# EAGLE library part AD5593 (library UNKNOWN-2024)
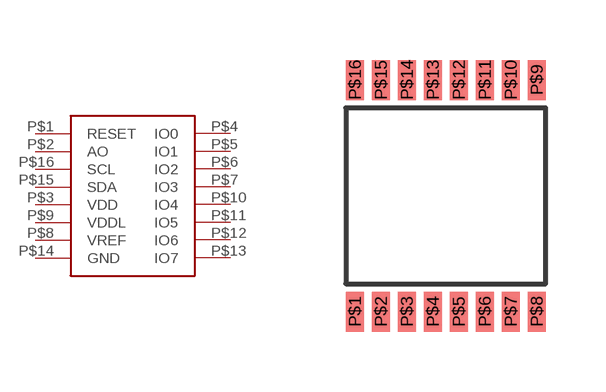
[diagram p20: symbol with the pads of AD5593; footprint AD5593]

Designator prefix -

## AD5593  [AD5593]
P$1  RESET
P$2  AO
P$3  VDD
P$4  IO0
P$5  IO1
P$6  IO2
P$7  IO3
P$8  VREF
P$9  VDDL
P$10  IO4
P$11  IO5
P$12  IO6
P$13  IO7
P$14  GND
P$15  SDA
P$16  SCL

## Footprint AD5593 (pad centres in mm)
smd 0.45 x 1: P$1 -2.275,-2.9; P$2 -1.625,-2.9; P$3 -0.975,-2.9; P$4 -0.325,-2.9; P$5 0.325,-2.9; P$6 0.975,-2.9; P$7 1.625,-2.9; P$8 2.275,-2.9; P$9 2.275,2.9; P$10 1.625,2.9; P$11 0.975,2.9; P$12 0.325,2.9; P$13 -0.325,2.9; P$14 -0.975,2.9; P$15 -1.625,2.9; P$16 -2.275,2.9